# EAGLE library part BLUEGIGA-WT12 (library Miguel)
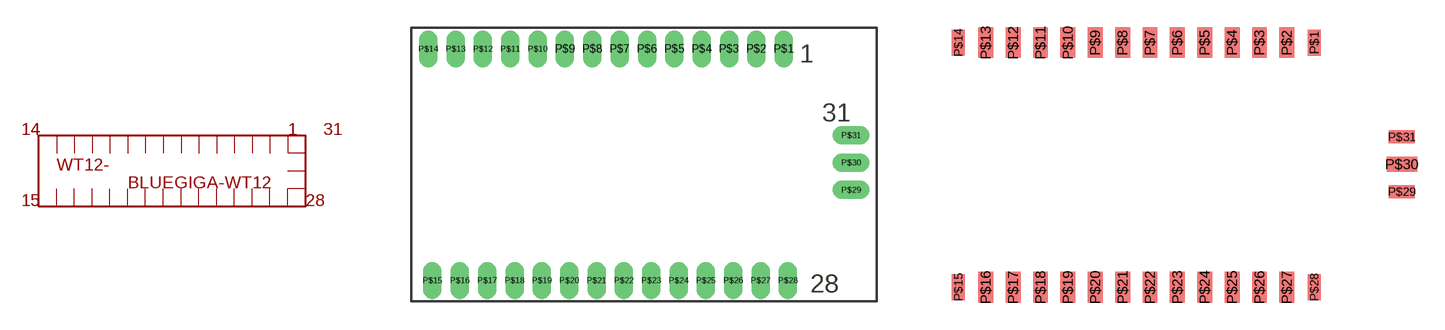
[diagram p1: symbol with the pads of WT12; footprints WT12, WT12-SMD]

Designator prefix WT12-

## BLUEGIGA-WT12  [WT12]
P$1  P$1  pwr
P$2  P$2  pwr
P$3  P$3
P$4  P$4
P$5  P$5
P$6  P$6
P$7  P$7
P$8  P$8
P$9  P$9
P$10  P$10
P$11  P$11
P$12  P$12
P$13  P$13
P$14  P$14  pwr
P$15  P$15  pwr
P$16  P$16  pwr
P$17  P$17
P$18  P$18
P$19  P$19
P$20  P$20
P$21  P$21
P$22  P$22
P$23  P$23
P$24  P$24
P$25  P$25
P$26  P$26
P$27  P$27  nc
P$28  P$28  pwr
P$29  P$29  pwr
P$30  P$30
P$31  P$31  pwr

## BLUEGIGA-WT12WT-SMD  [WT12-SMD]
Pads as for WT12

## Footprint WT12 (pad centres in mm)
drill 0.5 pad 1.016 long: P$1 9,6.35; P$2 7.5,6.35; P$3 6,6.35; P$4 4.5,6.35; P$5 3,6.35; P$6 1.5,6.35; P$7 0,6.35; P$8 -1.5,6.35; P$9 -3,6.35; P$10 -4.5,6.35; P$11 -6,6.35; P$12 -7.5,6.35; P$13 -9,6.35; P$14 -10.5,6.35; P$15 -10.27,-6.35; P$16 -8.77,-6.35; P$17 -7.27,-6.35; P$18 -5.77,-6.35; P$19 -4.27,-6.35; P$20 -2.77,-6.35; P$21 -1.27,-6.35; P$22 0.23,-6.35; P$23 1.73,-6.35; P$24 3.23,-6.35; P$25 4.73,-6.35; P$26 6.23,-6.35; P$27 7.73,-6.35; P$28 9.23,-6.35; P$29 12.7,-1.39; P$30 12.7,0.11; P$31 12.7,1.61

## Footprint WT12-SMD (pad centres in mm)
smd 0.711 x 1.422: P$1 7.7,6.7; P$14 -11.8,6.7; P$15 -11.8,-6.7; P$28 7.7,-6.7
smd 0.813 x 1.676: P$2 6.2,6.7; P$3 4.7,6.7; P$4 3.2,6.7; P$5 1.7,6.7; P$6 0.2,6.7; P$7 -1.3,6.7; P$8 -2.8,6.7; P$9 -4.3,6.7; P$10 -5.8,6.7; P$11 -7.3,6.7; P$12 -8.8,6.7; P$13 -10.3,6.7; P$16 -10.3,-6.7; P$17 -8.8,-6.7; P$18 -7.3,-6.7; P$19 -5.8,-6.7; P$20 -4.3,-6.7; P$21 -2.8,-6.7; P$22 -1.3,-6.7; P$23 0.2,-6.7; P$24 1.7,-6.7; P$25 3.2,-6.7; P$26 4.7,-6.7; P$27 6.2,-6.7
smd 1.422 x 0.711: P$29 12.5,-1.466; P$31 12.5,1.534
smd 1.676 x 0.813: P$30 12.5,0.035